# EAGLE library part MKL15Z128VLK4 (library FREESCALE_MKL15Z128VLK4)
IC MCU 32BIT 128KB FLASH ,LQFP-80
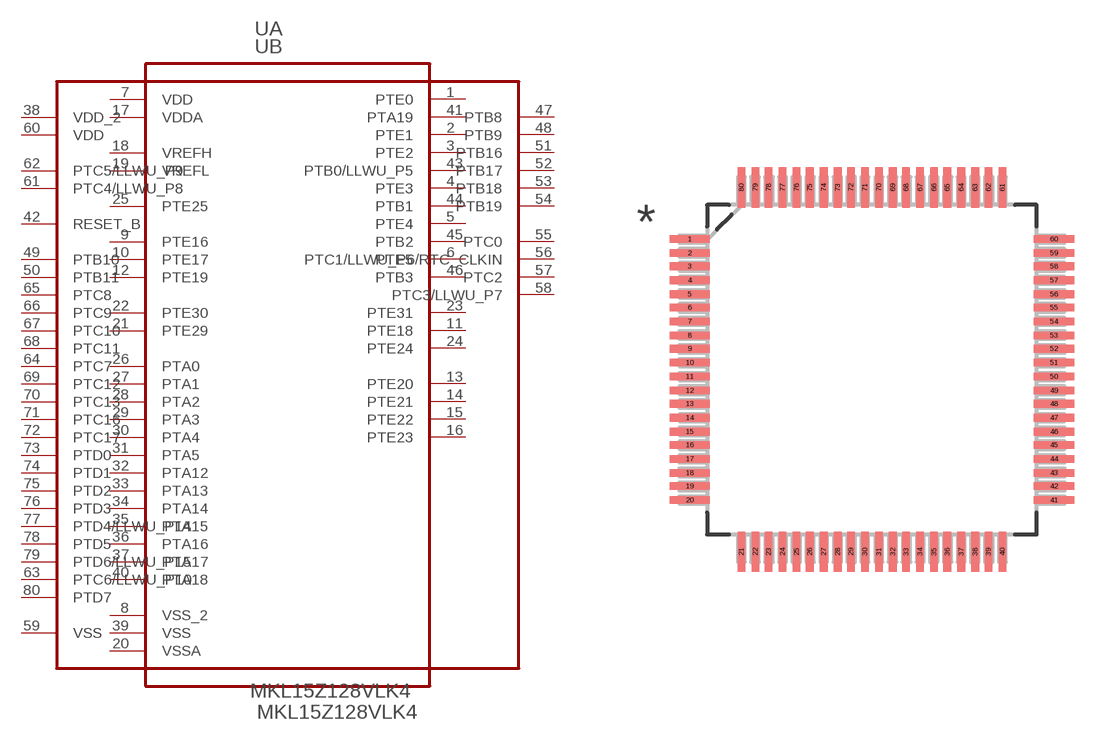
[diagram p0: symbol with the pads of QFP50P1400X1400X160-80N; footprint QFP50P1400X1400X160-80N]

Designator prefix U; gates A=MKL15Z128VLK4_A B=MKL15Z128VLK4_B

## MKL15Z128VLK4 (MPN: MKL15Z128VLK4; OC_FARNELL: 2212796; OC_NEWARK: 44W0179; PACKAGE: LQFP-80; SUPPLIER: FREESCALE SEMICONDUCTOR)  [QFP50P1400X1400X160-80N]
1  A:PTE0
2  A:PTE1
3  A:PTE2
4  A:PTE3
5  A:PTE4
6  A:PTE5
7  A:VDD  pwr
8  A:VSS_2  pwr
9  A:PTE16
10  A:PTE17
11  A:PTE18
12  A:PTE19
13  A:PTE20
14  A:PTE21
15  A:PTE22
16  A:PTE23
17  A:VDDA  pwr
18  A:VREFH  pas
19  A:VREFL  pas
20  A:VSSA  pwr
21  A:PTE29  pas
22  A:PTE30  pas
23  A:PTE31  pas
24  A:PTE24  pas
25  A:PTE25  pas
26  A:PTA0
27  A:PTA1
28  A:PTA2
29  A:PTA3
30  A:PTA4
31  A:PTA5
32  A:PTA12
33  A:PTA13
34  A:PTA14
35  A:PTA15
36  A:PTA16
37  A:PTA17
38  B:VDD_2  pwr
39  A:VSS  pwr
40  A:PTA18
41  A:PTA19
42  B:RESET_B  pas
43  A:PTB0/LLWU_P5
44  A:PTB1
45  A:PTB2
46  A:PTB3
47  B:PTB8
48  B:PTB9
49  B:PTB10
50  B:PTB11
51  B:PTB16
52  B:PTB17
53  B:PTB18
54  B:PTB19
55  B:PTC0
56  B:PTC1/LLWU_P6/RTC_CLKIN
57  B:PTC2
58  B:PTC3/LLWU_P7
59  B:VSS  pwr
60  B:VDD  pas
61  B:PTC4/LLWU_P8  pas
62  B:PTC5/LLWU_P9  pas
63  B:PTC6/LLWU_P10  pas
64  B:PTC7  pas
65  B:PTC8
66  B:PTC9
67  B:PTC10
68  B:PTC11
69  B:PTC12
70  B:PTC13
71  B:PTC16
72  B:PTC17
73  B:PTD0
74  B:PTD1
75  B:PTD2
76  B:PTD3
77  B:PTD4/LLWU_P14
78  B:PTD5
79  B:PTD6/LLWU_P15
80  B:PTD7

## Footprint QFP50P1400X1400X160-80N (pad centres in mm)
smd 1.473 x 0.279: 1 -6.629,4.75; 2 -6.629,4.242; 3 -6.629,3.759; 4 -6.629,3.251; 5 -6.629,2.743; 6 -6.629,2.261; 7 -6.629,1.753; 8 -6.629,1.245; 9 -6.629,0.762; 10 -6.629,0.254; 11 -6.629,-0.254; 12 -6.629,-0.762; 13 -6.629,-1.245; 14 -6.629,-1.753; 15 -6.629,-2.261; 16 -6.629,-2.743; 17 -6.629,-3.251; 18 -6.629,-3.759; 19 -6.629,-4.242; 20 -6.629,-4.75; 41 6.629,-4.75; 42 6.629,-4.242; 43 6.629,-3.759; 44 6.629,-3.251; 45 6.629,-2.743; 46 6.629,-2.261; 47 6.629,-1.753; 48 6.629,-1.245; 49 6.629,-0.762; 50 6.629,-0.254; 51 6.629,0.254; 52 6.629,0.762; 53 6.629,1.245; 54 6.629,1.753; 55 6.629,2.261; 56 6.629,2.743; 57 6.629,3.251; 58 6.629,3.759; 59 6.629,4.242; 60 6.629,4.75
smd 0.279 x 1.473: 21 -4.75,-6.629; 22 -4.242,-6.629; 23 -3.759,-6.629; 24 -3.251,-6.629; 25 -2.743,-6.629; 26 -2.261,-6.629; 27 -1.753,-6.629; 28 -1.245,-6.629; 29 -0.762,-6.629; 30 -0.254,-6.629; 31 0.254,-6.629; 32 0.762,-6.629; 33 1.245,-6.629; 34 1.753,-6.629; 35 2.261,-6.629; 36 2.743,-6.629; 37 3.251,-6.629; 38 3.759,-6.629; 39 4.242,-6.629; 40 4.75,-6.629; 61 4.75,6.629; 62 4.242,6.629; 63 3.759,6.629; 64 3.251,6.629; 65 2.743,6.629; 66 2.261,6.629; 67 1.753,6.629; 68 1.245,6.629; 69 0.762,6.629; 70 0.254,6.629; 71 -0.254,6.629; 72 -0.762,6.629; 73 -1.245,6.629; 74 -1.753,6.629; 75 -2.261,6.629; 76 -2.743,6.629; 77 -3.251,6.629; 78 -3.759,6.629; 79 -4.242,6.629; 80 -4.75,6.629